# EAGLE library part MICROSD-MR08 (library mgvc)
MicroSD socket MR08
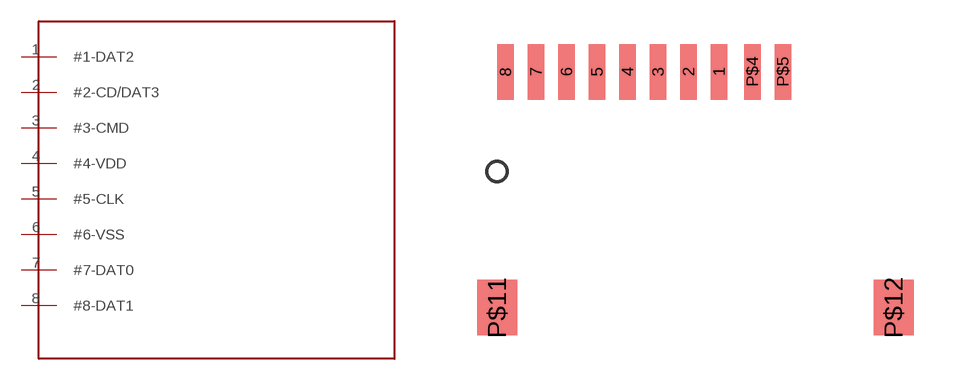
[diagram p3: symbol with the pads of MICROSD-MR08; footprint MICROSD-MR08]

Designator prefix -

## MICROSD-MR08  [MICROSD-MR08]
1  #1-DAT2
2  #2-CD/DAT3
3  #3-CMD
4  #4-VDD
5  #5-CLK
6  #6-VSS
7  #7-DAT0
8  #8-DAT1

## Footprint MICROSD-MR08 (pad centres in mm)
smd 0.6 x 2: 1 0,-1; 2 -1.1,-1; 3 -2.2,-1; 4 -3.3,-1; 5 -4.4,-1; 6 -5.5,-1; 7 -6.6,-1; 8 -7.7,-1; P$4 1.2,-1; P$5 2.3,-1
smd 1.45 x 2: P$11 -8,-9.5; P$12 6.3,-9.5